# EAGLE library part SDCARD_CON_AVX (library xess)
Secure Digital Memory Card Socket
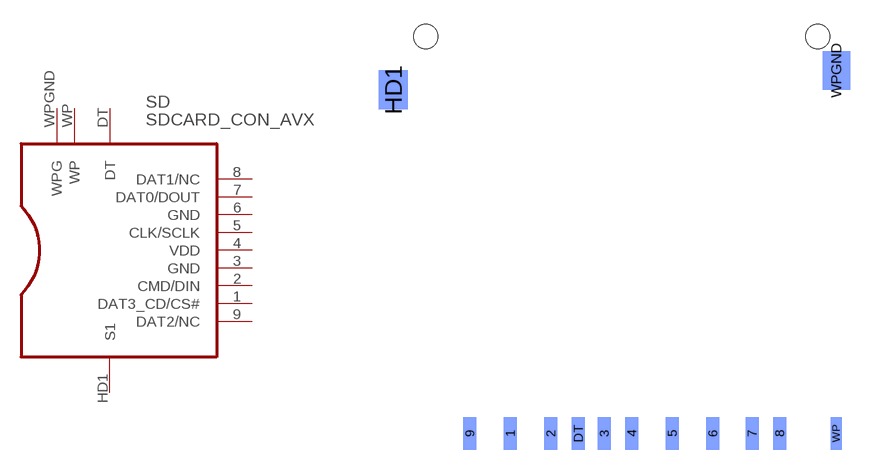
[diagram p104: symbol with the pads of AVX-145638109; footprint AVX-145638109]

Designator prefix SD

## SDCARD_CON_AVXREVERSE  [AVX-145638109]
1  DAT3_CD/CS#
2  CMD/DIN  in
3  GND  pas
4  VDD  pas
5  CLK/SCLK  in
6  GND  pas
7  DAT0/DOUT
8  DAT1/NC
9  DAT2/NC
DT  DT  out
HD1  S1  pas
WP  WP  out
WPGND  WPG  pas

## Footprint AVX-145638109 (pad centres in mm)
smd 0.8 x 2 bottom: 1 -6.88,-24.5; 2 -4.38,-24.5; 3 -1.08,-24.5; 4 0.62,-24.5; 5 3.12,-24.5; 6 5.62,-24.5; 7 8.05,-24.5; 8 9.75,-24.5; 9 -9.38,-24.5; DT -2.68,-24.5
smd 1.8 x 2.4 bottom: HD1 -14.1,-3.3
smd 0.7 x 2 bottom: WP 13.24,-24.5
smd 1.7 x 2.4 bottom: WPGND 13.25,-2.1
hole 1.5 at -12.1,0
hole 1.5 at 12.1,0